# Altium footprint library PTS526SM15SMTR2LFS.PcbLib: 3 footprints
Each footprint in its own frame and in the unit in brackets; x right, y up, seen from the top. Pads: shape width x height; smd on the part's side, far side on the other; paste and mask are expansions set on the pad; w line width, h text height; cw(c..) or ccw(c..) is an arc to the next point about the centre after c.
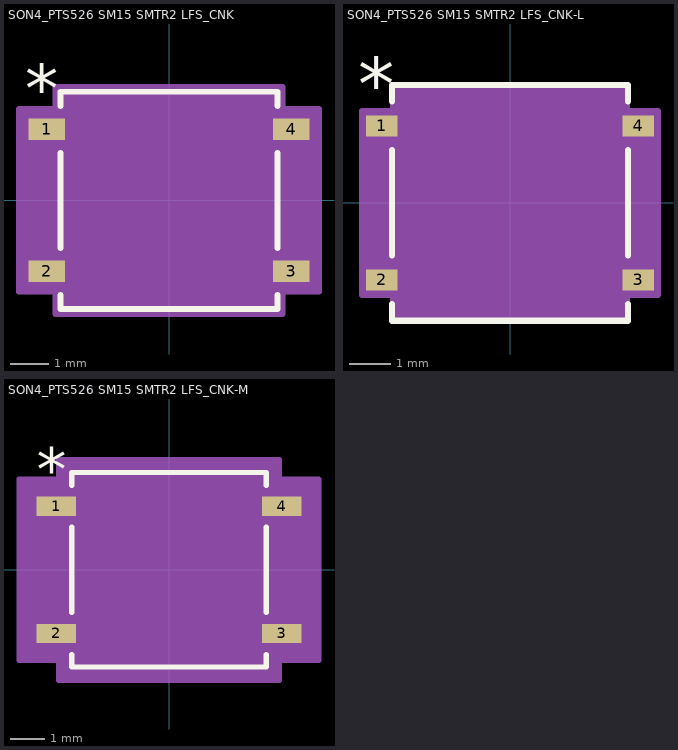
[diagram p0: the footprints below, top view; thin cyan lines are the x and y axes]

## SON4_PTS526 SM15 SMTR2 LFS_CNK [mm]
pads (4):
  rect 0.95x0.559 smd paste+0 mask+0: 1(-3.18,1.85) 2(-3.18,-1.85) 3(3.18,-1.85) 4(3.18,1.85)
Top Overlay:
  lines w0.152: -2.832,-2.462 -2.832,-2.832 2.832,-2.832 2.832,-2.462 ; -2.832,-1.238 -2.832,1.238 ; -2.832,2.462 -2.832,2.832 2.832,2.832 2.832,2.462 ; 2.832,-1.238 2.832,1.238
  text "*" at -3.752,2.282 h1.27
Mechanical 13:
  lines w0: -0.305,2.705 ccw(c0,2.705) 0.305,2.705
  lines w0.025: -3.3,-2.104 -3.3,-1.596 -2.705,-1.596 -2.705,-2.104 -3.3,-2.104 ; -3.3,1.596 -3.3,2.104 -2.705,2.104 -2.705,1.596 -3.3,1.596 ; -2.705,-2.705 2.705,-2.705 2.705,2.705 -2.705,2.705 -2.705,-2.705 ; 2.705,-2.104 2.705,-1.596 3.3,-1.596 3.3,-2.104 2.705,-2.104 ; 2.705,1.596 2.705,2.104 3.3,2.104 3.3,1.596 2.705,1.596
  text "*" at -2.642,1.359 h1.27
Mechanical 15:
  region: -2.959,-2.383 -3.91,-2.383 -3.91,2.383 -2.959,2.383 -2.959,2.959 2.959,2.959 2.959,2.383 3.91,2.383 3.91,-2.383 2.959,-2.383 2.959,-2.959 -2.959,-2.959
  lines w0.152: -3.91,-2.383 -3.91,2.383 -2.959,2.383 -2.959,2.959 2.959,2.959 2.959,2.383 3.91,2.383 3.91,-2.383 2.959,-2.383 2.959,-2.959 -2.959,-2.959 -2.959,-2.383 -3.91,-2.383
3D body "SON4_PTS526SM15SMTR2LFS_CNK.step": height 1.6, standoff 0, extent -3.3,-2.705 3.3,2.705

## SON4_PTS526 SM15 SMTR2 LFS_CNK-L [mm]
pads (4):
  rect 0.747x0.508 smd paste+0 mask+0: 1(-3.079,1.85) 2(-3.079,-1.85) 3(3.079,-1.85) 4(3.079,1.85)
Top Overlay:
  lines w0.152: -2.832,-2.437 -2.832,-2.832 2.832,-2.832 2.832,-2.437 ; -2.832,-1.263 -2.832,1.263 ; -2.832,2.437 -2.832,2.832 2.832,2.832 2.832,2.437 ; 2.832,-1.263 2.832,1.263
  text "*" at -3.65,2.231 h1.27
Mechanical 13:
  lines w0: -0.305,2.705 ccw(c0,2.705) 0.305,2.705
  lines w0.025: -3.3,-2.104 -3.3,-1.596 -2.705,-1.596 -2.705,-2.104 -3.3,-2.104 ; -3.3,1.596 -3.3,2.104 -2.705,2.104 -2.705,1.596 -3.3,1.596 ; -2.705,-2.705 2.705,-2.705 2.705,2.705 -2.705,2.705 -2.705,-2.705 ; 2.705,-2.104 2.705,-1.596 3.3,-1.596 3.3,-2.104 2.705,-2.104 ; 2.705,1.596 2.705,2.104 3.3,2.104 3.3,1.596 2.705,1.596
  text "*" at -2.642,1.359 h1.27
Mechanical 15:
  region: -2.807,-2.206 -3.554,-2.206 -3.554,2.206 -2.807,2.206 -2.807,2.807 2.807,2.807 2.807,2.206 3.554,2.206 3.554,-2.206 2.807,-2.206 2.807,-2.807 -2.807,-2.807
  lines w0.152: -3.554,-2.206 -3.554,2.206 -2.807,2.206 -2.807,2.807 2.807,2.807 2.807,2.206 3.554,2.206 3.554,-2.206 2.807,-2.206 2.807,-2.807 -2.807,-2.807 -2.807,-2.206 -3.554,-2.206
3D body: height 0.25, standoff 0, extent 0,0 0.254,0.254

## SON4_PTS526 SM15 SMTR2 LFS_CNK-M [mm]
pads (4):
  rect 1.154x0.559 smd paste+0 mask+0: 1(-3.282,1.85) 2(-3.282,-1.85) 3(3.282,-1.85) 4(3.282,1.85)
Top Overlay:
  lines w0.152: -2.832,-2.462 -2.832,-2.832 2.832,-2.832 2.832,-2.462 ; -2.832,-1.238 -2.832,1.238 ; -2.832,2.462 -2.832,2.832 2.832,2.832 2.832,2.462 ; 2.832,-1.238 2.832,1.238
  text "*" at -3.853,2.282 h1.27
Mechanical 13:
  lines w0: -0.305,2.705 ccw(c0,2.705) 0.305,2.705
  lines w0.025: -3.3,-2.104 -3.3,-1.596 -2.705,-1.596 -2.705,-2.104 -3.3,-2.104 ; -3.3,1.596 -3.3,2.104 -2.705,2.104 -2.705,1.596 -3.3,1.596 ; -2.705,-2.705 2.705,-2.705 2.705,2.705 -2.705,2.705 -2.705,-2.705 ; 2.705,-2.104 2.705,-1.596 3.3,-1.596 3.3,-2.104 2.705,-2.104 ; 2.705,1.596 2.705,2.104 3.3,2.104 3.3,1.596 2.705,1.596
  text "*" at -2.642,1.359 h1.27
Mechanical 15:
  region: -3.213,-2.637 -4.367,-2.637 -4.367,2.637 -3.213,2.637 -3.213,3.213 3.213,3.213 3.213,2.637 4.367,2.637 4.367,-2.637 3.213,-2.637 3.213,-3.213 -3.213,-3.213
  lines w0.152: -4.367,-2.637 -4.367,2.637 -3.213,2.637 -3.213,3.213 3.213,3.213 3.213,2.637 4.367,2.637 4.367,-2.637 3.213,-2.637 3.213,-3.213 -3.213,-3.213 -3.213,-2.637 -4.367,-2.637
3D body: height 0.25, standoff 0, extent 0,0 0.254,0.254